# Altium schematic symbol library MINI-V3.SchLib: 73 symbols
Pins are listed as number, name and electrical type; pins without a type are passive.

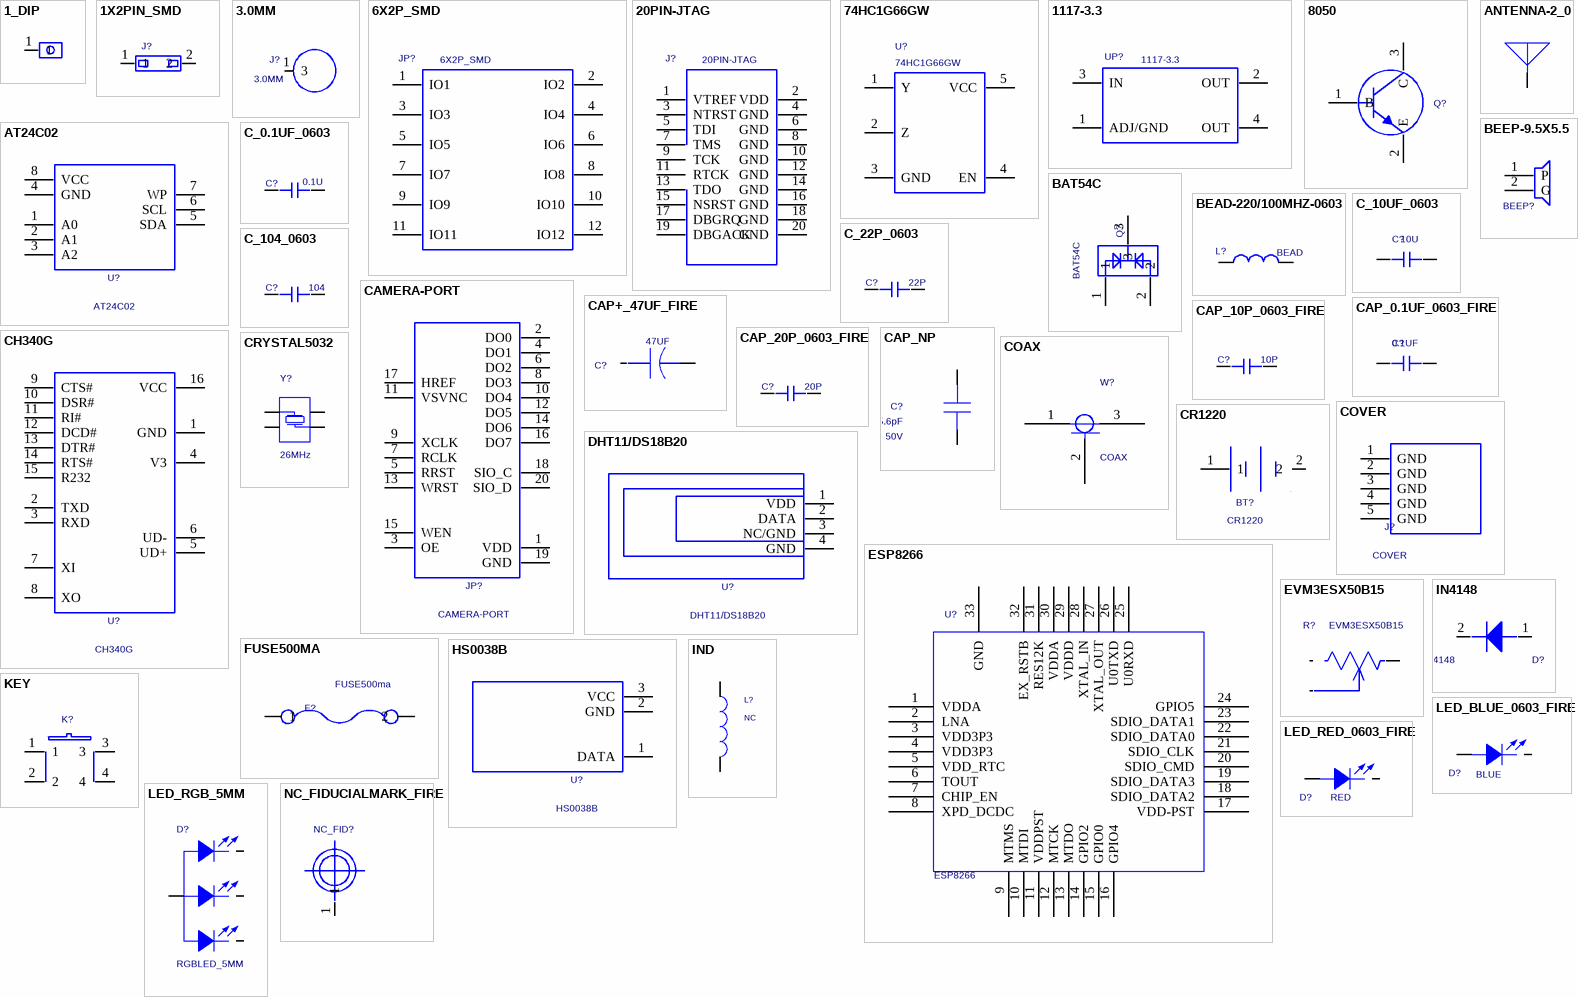
[diagram p0: symbols 1_DIP to NC_FIDUCIALMARK_FIRE]

## 1_DIP
designator J?  (value not drawn)
PCB DECAL: 1_DIP
footprint 1_DIP
pins: 1

## 1X2PIN_SMD
designator J?  (value not drawn)
PCB DECAL: 1X2PIN_SMD
footprint 1X2PIN_SMD
pins: 1, 2

## 3.0MM
designator J?
PCB DECAL: 3.0MM-5
footprint 3.0MM-5
pins: 1 3

## 6X2P_SMD
designator JP?
I2C_6X2P; PCB DECAL: 12PIN_2.54_SMD; Manufacturer #1 PN: I2C_6X2P; Value: I2C_6X2P
footprint 12PIN_2.54_SMD
pins: 1 IO1, 2 IO2, 3 IO3, 4 IO4, 5 IO5, 6 IO6, 7 IO7, 8 IO8, 9 IO9, 10 IO10, 11 IO11, 12 IO12

## 20PIN-JTAG
designator J?
20pin JTAG; PCB DECAL: FC20H; Manufacturer #1: 20pin JTAG; Manufacturer #1 PN: 20pin JTAG; Value: 20pin JTAG
footprint FC20H
pins: 1 VTREF, 2 VDD, 3 NTRST, 4 GND, 5 TDI, 6 GND, 7 TMS, 8 GND, 9 TCK, 10 GND, 11 RTCK, 12 GND, 13 TDO, 14 GND, 15 NSRST, 16 GND, 17 DBGRQ, 18 GND, 19 DBGACK, 20 GND

## 74HC1G66GW
designator U?
PCB DECAL: SOT-353
footprint SOT-353
pins: 1 Y, 2 Z, 3 GND, 4 EN, 5 VCC

## 1117-3.3
designator UP?
SOT-223; Manufacturer #1: SPX; Geometry.Height: 62.99mil; Manufacturer #1 PN: 1117-3.3
pins: 1 ADJ/GND, 2 OUT, 3 IN, 4 OUT

## 8050
designator Q?  (value not drawn)
NPN; PCB DECAL: SOT-23; Manufacturer #2: 8050
footprint SOT-23
pins: 1 B, 2 E, 3 C

## ANTENNA-2_0
designator U?  (value not drawn)
PCB DECAL: WIFI_ANTENNA; Source_Path: D:\FIRE_LAYOUT\ESP8266.DSN; Value: ANTENNA-2
footprint WIFI_ANTENNA
pins: 1

## AT24C02
designator U?
8 lead ssop,2k/2048bits; Manufacturer #1: ATMEL; Manufacturer #1 PN: AT24C02; Value: 2k/2048bits
pins: 1 A0, 2 A1, 3 A2, 4 GND, 5 SDA, 6 SCL, 7 WP, 8 VCC

## BAT54C
designator Q?
PCB DECAL: SOT-23; Value: BAT54C
footprint SOT-23
pins: 1, 2, 3

## BEAD-220/100MHZ-0603
designator L?  value BEAD  (hidden comment: BEAD-220/100MHZ-0603)
0603,BEAD; PCB DECAL: L0603; Manufacturer #1 PN: BEAD
footprint L0603
pins: 1, 2

## BEEP-9.5X5.5
designator BEEP?  (value not drawn)
PCB DECAL: BEEP-9.5X5.5
footprint BEEP-9.5X5.5
pins: 1 P, 2 G

## C_0.1UF_0603
designator C?  value 0.1U  (hidden comment: C_0.1UF_0603)
PCB DECAL: C_0603
footprint C_0603
pins: 1, 2

## C_10UF_0603
designator C?  value 10U  (hidden comment: C_10UF_0603)
PCB DECAL: CAP_0603_FIRE
footprint CAP_0603_FIRE
pins: 1, 2

## C_22P_0603
designator C?  value 22P  (hidden comment: C_22P_0603)
PCB DECAL: C_0603
footprint C_0603
pins: 1, 2

## C_104_0603
designator C?  value 104  (hidden comment: C_104_0603)
PCB DECAL: C_0603
footprint C_0603
pins: 1, 2

## CAMERA-PORT
designator JP?
PCB DECAL: 20PIN_2.54_DIP_BOT; Manufacture 1 P/N: CAMERA-PORT
footprint 20PIN_2.54_DIP_BOT
pins: 1 VDD, 2 DO0, 3 OE, 4 DO1, 5 RRST, 6 DO2, 7 RCLK, 8 DO3, 9 XCLK, 10 DO4, 11 VSVNC, 12 DO5, 13 WRST, 14 DO6, 15 WEN, 16 DO7, 17 HREF, 18 SIO_C, 19 GND, 20 SIO_D

## CAP+_47UF_FIRE
designator C?  value 47UF  (hidden comment: CAP+_47UF_FIRE)
PCB DECAL: CAP+_47UF_FIRE
footprint CAP+_47UF_FIRE
pins: 1, 2

## CAP_0.1UF_0603_FIRE
designator C?  value 0.1UF  (hidden comment: CAP_0.1UF_0603_FIRE)
SURFACE MOUNT CAPACITOR 0.031 X 0.061 INCHES; PCB DECAL: CAP_0603_FIRE
footprint CAP_0603_FIRE
pins: 1, 2

## CAP_10P_0603_FIRE
designator C?  value 10P  (hidden comment: CAP_10P_0603_FIRE)
0603; Manufacture 1: SUPERCAP; Tolerance: +-5%; PCB DECAL: RES_0603_FIRE
footprint RES_0603_FIRE
pins: 1, 2

## CAP_20P_0603_FIRE
designator C?  value 20P  (hidden comment: CAP_20P_0603_FIRE)
PCB DECAL: CAP_0603_FIRE
footprint CAP_0603_FIRE
pins: 1, 2

## CAP_NP
designator C?  value 5.6pF  Voltage: 50V  (hidden comment: CAP_NP)
0603, X7R, 50V, 10%(K); Partname: 贴片电容  0603; Mfr: Fenghua; Mfr_Part_Number: 0603B104K500NT; Part_Number: CA100039-01; PCB DECAL: 0603; Spec: 100nF/50V 10%(K) X7R,0603B104K500NT(风华); Remarks: Checked; Gtech_Number: 50306031003K50V01; Source_Path: D:\CADENCELIB\CAPTURELIB\LC_PASSIVE.OLB; Datasheet: D:\CadenceLib\Partbase\Datasheet\Capacitor\Fenghua\LC503_Fenghua-X7R.pdf; Tolerance: ±10%; Availability: 30
footprint 0603
pins: 1, 2

## CH340G
designator U?
PCB DECAL: SOP16
footprint SOP16
pins: 1 GND, 2 TXD, 3 RXD, 4 V3, 5 UD+, 6 UD-, 7 XI, 8 XO, 9 CTS#, 10 DSR#, 11 RI#, 12 DCD#, 13 DTR#, 14 RTS#, 15 R232, 16 VCC

## COAX
designator W?
PCB DECAL: UFL-3; Source_Path: C:\CADENCE\SPB_16.6\TOOLS\CAPTURE\LIBRARY\CONNECTOR.OLB; Value: COAX
footprint UFL-3
pins: 1 CENTER_1, 2 SHIELD, 3 CENTER_2

## COVER
designator J?
PCB DECAL: COVER1
footprint COVER1
pins: 1 GND, 2 GND, 3 GND, 4 GND, 5 GND

## CR1220
designator BT?
PCB DECAL: BATERY
footprint BATERY
pins: 1, 2

## CRYSTAL5032
designator Y?  value 26MHz  (hidden comment: CRYSTAL5032)
27.12MHz,SMD5032,-30 to 85℃; Part_Number: OS200008-01; Mfr_Part_Number: E5SB27_1200F20G13; Mfr: Hosonic; Partname: 贴片晶振; PCB DECAL: NX3225SA; Spec: 27.12MHz,E5SB27_1200F20G13(Hosonic); Source_Path: D:\CADENCELIB\CAPTURELIB\LC_DISCRETE.OLB; Availability: 0
footprint NX3225SA
pins: 1, 2, 3, 4

## DHT11/DS18B20
designator U?
Manufacture 1 P/N: DHT11/DS1302; PCB DECAL: HDR1X4
footprint HDR1X4
pins: 1 VDD, 2 DATA, 3 NC/GND, 4 GND

## ESP8266
designator U?
PCB DECAL: QFN32_1; Source_Path: C:\CADENCE\SPB_16.6\TOOLS\CAPTURE\LIBRARY\CAPSYM.OLB; Value: ESP8266
footprint QFN32_1
pins: 1 VDDA, 2 LNA, 3 VDD3P3, 4 VDD3P3, 5 VDD_RTC, 6 TOUT, 7 CHIP_EN, 8 XPD_DCDC, 9 MTMS, 10 MTDI, 11 VDDPST, 12 MTCK, 13 MTDO, 14 GPIO2, 15 GPIO0, 16 GPIO4, 17 VDD-PST, 18 SDIO_DATA2, 19 SDIO_DATA3, 20 SDIO_CMD, 21 SDIO_CLK, 22 SDIO_DATA0, 23 SDIO_DATA1, 24 GPIO5, 25 U0RXD, 26 U0TXD, 27 XTAL_OUT, 28 XTAL_IN, 29 VDDD, 30 VDDA, 31 RES12K, 32 EX_RSTB, 33 GND

## EVM3ESX50B15
designator R?
c; Value: EVM3ESX50B15-100K; PCB DECAL: EVM3ESX50B14
footprint EVM3ESX50B14
pins: A, B, C

## FUSE500MA
designator F?
Assembly: SMD; PCB DECAL: C1812; Protel.FootprintDescription: Chip Capacitor, 2-Leads, Body 4.6x3.2mm, IP; Description: FUSE500ma; Manufacture 1 P/N: FUSE500ma; Value: FUSE500ma
footprint C1812
pins: 1, 2

## HS0038B
designator U?
PCB DECAL: HDR1X3; Geometry.Height: 1.19990mm; Protel.FootprintDescription: Connector; Header; 3 Position; Manufacture 1 P/N: HS0038B
footprint HDR1X3
pins: 1 DATA, 2 GND, 3 VCC

## IN4148
designator D?
PCB DECAL: DIODE_SOP; VALUE: IN4148
footprint DIODE_SOP
pins: 1 +, 2 -

## IND
designator L?  value NC  (hidden comment: IND)
1uH, 1.1R@245MHz, 245mA; Partname: 贴片电感; Mfr: TDK; Mfr_Part_Number: NLV25T-1R0J-PF; Part_Number: IN100085-01; PCB DECAL: 0603; Spec: 1uH,NLV25T-1R0J-PF(TDK); Tolerance: 5%; Resistance: 1.1R; Source_Path: D:\CADENCELIB\CAPTURELIB\LC_PASSIVE.OLB; Current: 245mA; Availability: 0
footprint 0603
pins: 1, 2

## KEY
designator K?  (value not drawn)
PCB DECAL: SW6.2/6.2-SMD; Manufacturer #1 PN: KEY
footprint SW6.2/6.2-SMD
pins: 1, 2, 3, 4

## LED_BLUE_0603_FIRE
designator D?  value BLUE  (hidden comment: LED_BLUE_0603_FIRE)
blue,0603; PCB DECAL: LED_BLUE_0603_FIRE
footprint LED_BLUE_0603_FIRE
pins: A ANODE, K CATHODE

## LED_RED_0603_FIRE
designator D?  value RED  (hidden comment: LED_RED_0603_FIRE)
red,0805; PCB DECAL: LED_RED_0603_FIRE
footprint LED_RED_0603_FIRE
pins: A ANODE, K CATHODE

## LED_RGB_5MM
designator D?  value RGBLED_5MM  (hidden comment: LED_RGB_5MM)
RGB; PCB DECAL: LED_RGB_5MM
footprint LED_RGB_5MM
pins: 1 G, 2 G, 3 R, 4 R

## NC_FIDUCIALMARK_FIRE
designator NC_FID?  (value not drawn)
FIDUCIAL MARK; Serial Number: NF; Priority: 1; PCB DECAL: NC_FIDUCIALMARK_FIRE
footprint NC_FIDUCIALMARK_FIRE
pins: 1

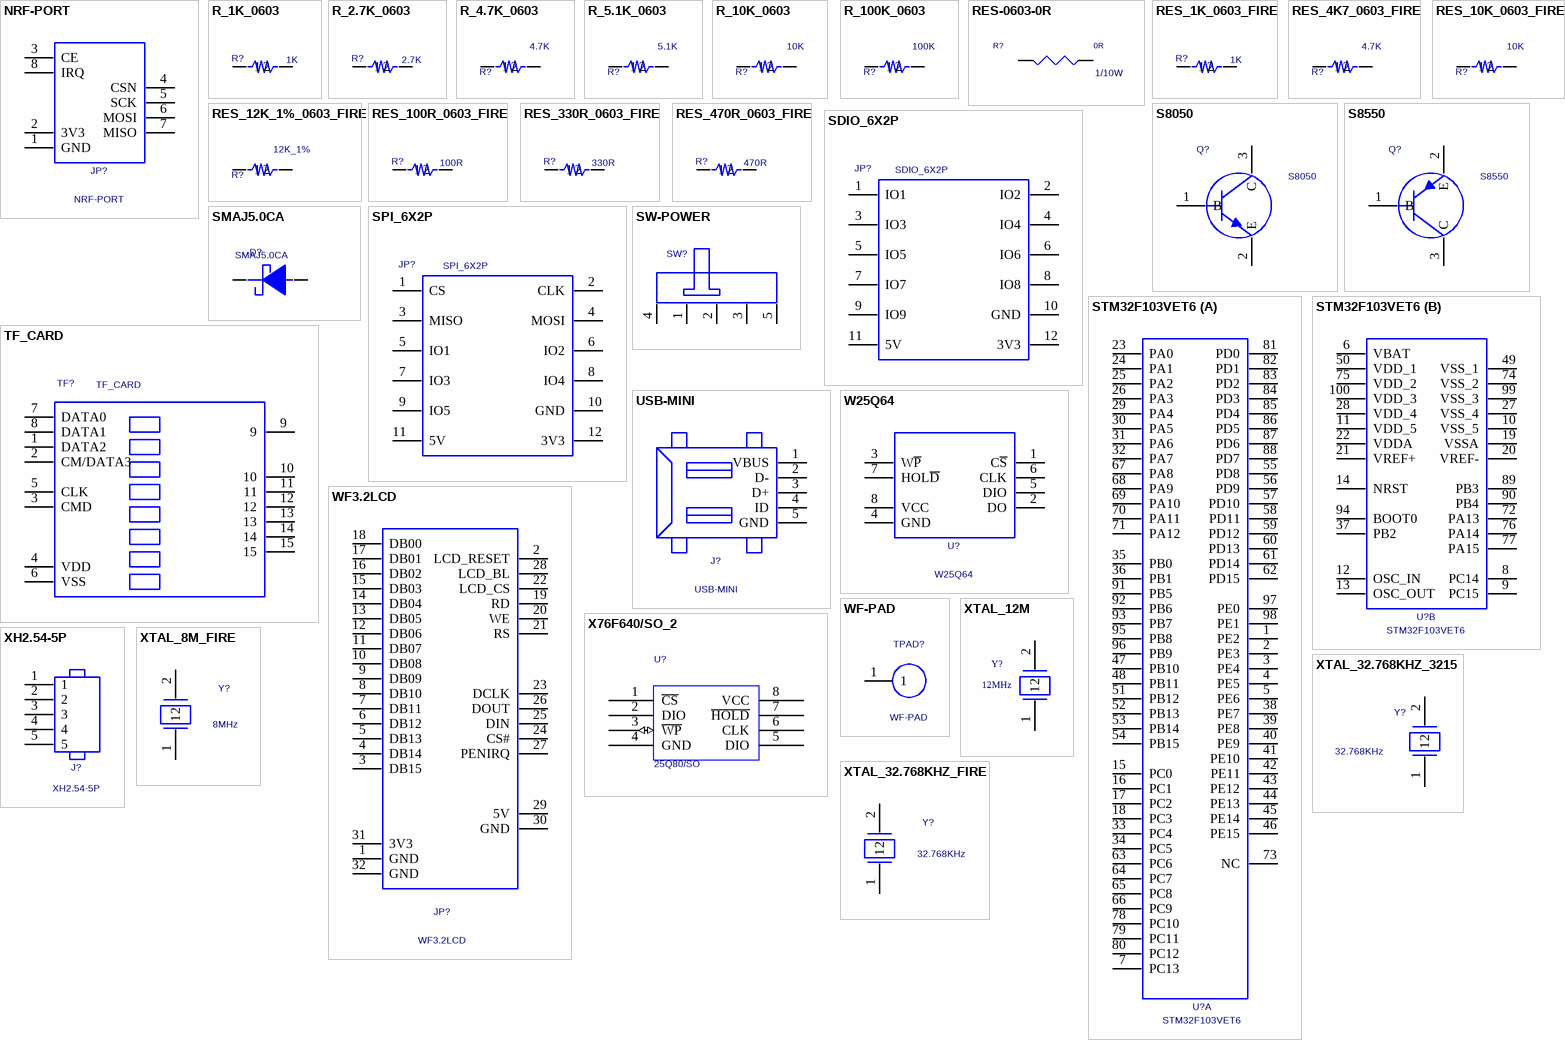
[diagram p1: symbols NRF-PORT to XTAL_32.768KHZ_FIRE]

## NRF-PORT
designator JP?
PCB DECAL: 8PIN_2.54_SMD; Manufacture 1 P/N: NRF-PORT
footprint 8PIN_2.54_SMD
pins: 1 GND, 2 3V3, 3 CE, 4 CSN, 5 SCK, 6 MOSI, 7 MISO, 8 IRQ

## R_1K_0603
designator R?  value 1K  (hidden comment: R_1K_0603)
PCB DECAL: R_0603
footprint R_0603
pins: 1, 2

## R_2.7K_0603
designator R?  value 2.7K  (hidden comment: R_2.7K_0603)
PCB DECAL: R_0603
footprint R_0603
pins: 1, 2

## R_4.7K_0603
designator R?  value 4.7K  (hidden comment: R_4.7K_0603)
PCB DECAL: R_0603
footprint R_0603
pins: 1, 2

## R_5.1K_0603
designator R?  value 5.1K  (hidden comment: R_5.1K_0603)
PCB DECAL: R_0603
footprint R_0603
pins: 1, 2

## R_10K_0603
designator R?  value 10K  (hidden comment: R_10K_0603)
PCB DECAL: R_0603
footprint R_0603
pins: 1, 2

## R_100K_0603
designator R?  value 100K  (hidden comment: R_100K_0603)
PCB DECAL: R_0603
footprint R_0603
pins: 1, 2

## RES-0603-0R
designator R?  value 0R  Power: 1/10W  (hidden comment: RES-0603-0R)
0603, 50V, 1/10W, 5%; Partname: 贴片电阻 0603; Part_Number: RE200045-01; Mfr_Part_Number: RS03K104JT; Mfr: Fenghua; PCB DECAL: 0603; Spec: 0R,1/10W,5%,RS03K104JT(风华); Remarks: Checked; Gtech_Number: 50106031003JR1001; Source_Path: D:\CADENCELIB\CAPTURELIB\LC_PASSIVE.OLB; Availability: 0
footprint 0603
pins: 1, 2

## RES_1K_0603_FIRE
designator R?  value 1K  (hidden comment: RES_1K_0603_FIRE)
0402; Manufacture 1: SUPEROHM; Tolerance: +-5%; PCB DECAL: RES_0603_FIRE; Assembly: SMD
footprint RES_0603_FIRE
pins: 1, 2

## RES_4K7_0603_FIRE
designator R?  value 4.7K  (hidden comment: RES_4K7_0603_FIRE)
0402; Manufacture 1: SUPEROHM; Tolerance: +-5%; PCB DECAL: RES_0603_FIRE
footprint RES_0603_FIRE
pins: 1, 2

## RES_10K_0603_FIRE
designator R?  value 10K  (hidden comment: RES_10K_0603_FIRE)
SURFACE MOUNT RESISTOR 0.031 X 0.061 INCHES, 1/10W; PCB DECAL: RES_0603_FIRE; Assembly: SMD
footprint RES_0603_FIRE
pins: 1, 2

## RES_12K_1%_0603_FIRE
designator R?  value 12K_1%  (hidden comment: RES_12K_1%_0603_FIRE)
0402; Manufacture 1: SUPEROHM; Tolerance: +-1%; PCB DECAL: RES_0603_FIRE; Assembly: SMD
footprint RES_0603_FIRE
pins: 1, 2

## RES_100R_0603_FIRE
designator R?  value 100R  (hidden comment: RES_100R_0603_FIRE)
0402; Manufacture 1: SUPEROHM; Tolerance: +-5%; PCB DECAL: RES_0603_FIRE; Assembly: SMD
footprint RES_0603_FIRE
pins: 1, 2

## RES_330R_0603_FIRE
designator R?  value 330R  (hidden comment: RES_330R_0603_FIRE)
0402; Manufacture 1: SUPEROHM; Tolerance: +-5%; PCB DECAL: RES_0603_FIRE; Assembly: SMD
footprint RES_0603_FIRE
pins: 1, 2

## RES_470R_0603_FIRE
designator R?  value 470R  (hidden comment: RES_470R_0603_FIRE)
0402; Manufacture 1: SUPEROHM; Tolerance: +-5%; PCB DECAL: RES_0603_FIRE; Assembly: SMD
footprint RES_0603_FIRE
pins: 1, 2

## S8050
designator Q?
NPN; PCB DECAL: SOT-23; Manufacturer #2: 8050
footprint SOT-23
pins: 1 B, 2 E, 3 C

## S8550
designator Q?
NPN; PCB DECAL: SOT-23; Manufacturer #2: 8050
footprint SOT-23
pins: 1 B, 2 E, 3 C

## SDIO_6X2P
designator JP?
I2C_6X2P; PCB DECAL: 12PIN_2.54_SMD; Manufacturer #1 PN: I2C_6X2P; Value: I2C_6X2P
footprint 12PIN_2.54_SMD
pins: 1 IO1, 2 IO2, 3 IO3, 4 IO4, 5 IO5, 6 IO6, 7 IO7, 8 IO8, 9 IO9, 10 GND, 11 5V, 12 3V3

## SMAJ5.0CA
designator D?
PCB DECAL: DO-214; Value: SMAJ5.0CA
footprint DO-214
pins: 1 +, 2 -

## SPI_6X2P
designator JP?
PCB DECAL: 12PIN_2.54_SMD; Description: SPI_6X2P; Manufacturer #1 PN: SPI_6X2P; Value: SPI_6X2P
footprint 12PIN_2.54_SMD
pins: 1 CS, 2 CLK, 3 MISO, 4 MOSI, 5 IO1, 6 IO2, 7 IO3, 8 IO4, 9 IO5, 10 GND, 11 5V, 12 3V3

## STM32F103VET6
designator U?
Geometry.Height: 62.99mil; Protel.FootprintDescription: TSQFP, 100-Leads, Body 16.2x16.2mm (max), Pitch 0.50mm, IP; PCB DECAL: STM32F103VET6-LQFP; Value: STM32F103VET6
footprint STM32F103VET6-LQFP
part A pins: 1 PE2, 2 PE3, 3 PE4, 4 PE5, 5 PE6, 7 PC13, 15 PC0, 16 PC1, 17 PC2, 18 PC3, 23 PA0, 24 PA1, 25 PA2, 26 PA3, 29 PA4, 30 PA5, 31 PA6, 32 PA7, 33 PC4, 34 PC5, 35 PB0, 36 PB1, 38 PE7, 39 PE8, 40 PE9, 41 PE10, 42 PE11, 43 PE12, 44 PE13, 45 PE14, 46 PE15, 47 PB10, 48 PB11, 51 PB12, 52 PB13, 53 PB14, 54 PB15, 55 PD8, 56 PD9, 57 PD10, 58 PD11, 59 PD12, 60 PD13, 61 PD14, 62 PD15, 63 PC6, 64 PC7, 65 PC8, 66 PC9, 67 PA8, 68 PA9, 69 PA10, 70 PA11, 71 PA12, 73 NC, 78 PC10, 79 PC11, 80 PC12, 81 PD0, 82 PD1, 83 PD2, 84 PD3, 85 PD4, 86 PD5, 87 PD6, 88 PD7, 91 PB5, 92 PB6, 93 PB7, 95 PB8, 96 PB9, 97 PE0, 98 PE1
part B pins: 6 VBAT, 8 PC14, 9 PC15, 10 VSS_5, 11 VDD_5, 12 OSC_IN, 13 OSC_OUT, 14 NRST, 19 VSSA, 20 VREF-, 21 VREF+, 22 VDDA, 27 VSS_4, 28 VDD_4, 37 PB2, 49 VSS_1, 50 VDD_1, 72 PA13, 74 VSS_2, 75 VDD_2, 76 PA14, 77 PA15, 89 PB3, 90 PB4, 94 BOOT0, 99 VSS_3, 100 VDD_3

## SW-POWER
designator SW?  (value not drawn)
SW-5; PCB DECAL: SW13_6; Manufacturer #1 PN: SW-5
footprint SW13_6
pins: 1, 2, 3, 4, 5

## TF_CARD
designator TF?
Manufacturer #1 PN: MicroSD座/手机; PCB DECAL: TF_CARD
footprint TF_CARD
pins: 1 DATA2, 2 CM/DATA3, 3 CMD, 4 VDD, 5 CLK, 6 VSS, 7 DATA0, 8 DATA1, 9, 10, 11, 12, 13, 14, 15

## USB-MINI
designator J?
PCB DECAL: USB-MINI
footprint USB-MINI
pins: 1 VBUS, 2 D-, 3 D+, 4 ID, 5 GND

## W25Q64
designator U?
PCB DECAL: SO8WB
footprint SO8WB
pins: 1 C~{S}, 2 DO, 3 W~{P}, 4 GND, 5 DIO, 6 CLK, 7 HOL~{D}, 8 VCC

## WF3.2LCD
designator JP?
PCB DECAL: 2X16X2.54MM
footprint 2X16X2.54MM
pins: 1 GND, 2 LCD_RESET, 3 DB15, 4 DB14, 5 DB13, 6 DB12, 7 DB11, 8 DB10, 9 DB09, 10 DB08, 11 DB07, 12 DB06, 13 DB05, 14 DB04, 15 DB03, 16 DB02, 17 DB01, 18 DB00, 19 RD, 20 WE, 21 RS, 22 LCD_CS, 23 DCLK, 24 CS#, 25 DIN, 26 DOUT, 27 PENIRQ, 28 LCD_BL, 29 5V, 30 GND, 31 3V3, 32 GND

## WF-PAD
designator TPAD?
pins: 1

## X76F640/SO_2
designator U?  value 25Q80/SO  (hidden comment: X76F640/SO_2)
PCB DECAL: SOP8; Source_Path: D:\FIRE_LAYOUT\ESP8266.DSN
footprint SOP8
pins: 1 ~{CS}, 2 DIO, 3 ~{WP} (io), 4 GND, 5 DIO, 6 CLK, 7 ~{HOLD}, 8 VCC

## XH2.54-5P
designator J?
PCB DECAL: XH2.54-5P
footprint XH2.54-5P
pins: 1, 2, 3, 4, 5

## XTAL_8M_FIRE
designator Y?  value 8MHz  (hidden comment: XTAL_8M_FIRE)
CRYSTAL; PCB DECAL: CRYSTAL_SMD_FIRE
footprint CRYSTAL_SMD_FIRE
pins: 1, 2

## XTAL_12M
designator Y?  value 12MHz  (hidden comment: XTAL_12M)
PCB DECAL: XTAL_SMD
footprint XTAL_SMD
pins: 1, 2

## XTAL_32.768KHZ_3215
designator Y?  value 32.768KHz  (hidden comment: XTAL_32.768KHZ_3215)
CRYSTAL; PCB DECAL: 3215
footprint 3215
pins: 1, 2

## XTAL_32.768KHZ_FIRE
designator Y?  value 32.768KHz  (hidden comment: XTAL_32.768KHZ_FIRE)
CRYSTAL; PCB DECAL: CRYS-3X8
footprint CRYS-3X8
pins: 1, 2